# Altium schematic symbol library ATMEGA328P.SchLib: 1 symbol
Pins are listed as number, name and electrical type; pins without a type are passive.

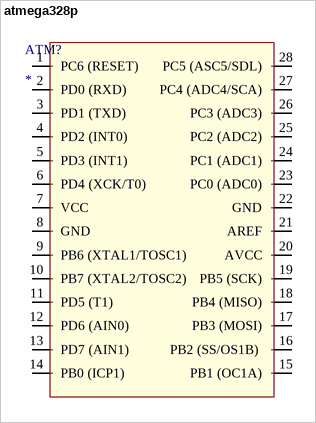
[diagram p0: symbol atmega328p]

## atmega328p
designator ATM?
footprint ATmega328/P (SOJ, 28-Leads, Body 34,60x7,94mm, Pitch 2,54mm, IPC Low Density)
pins: 1 PC6 (RESET) "RESET", 2 PD0 (RXD) "RXD", 3 PD1 (TXD) "TXD", 4 PD2 (INT0) "INT0", 5 PD3 (INT1) "INT1", 6 PD4 (XCK/T0) "XCK/T0", 7 VCC, 8 GND, 9 PB6 (XTAL1/TOSC1)  "XTAL1/TOSC1", 10 PB7 (XTAL2/TOSC2)  "XTAL2/TOSC2", 11 PD5 (T1) "T1", 12 PD6 (AIN0) "AIN0", 13 PD7 (AIN1) "AIN1", 14 PB0 (ICP1) "ICP1", 15 PB1 (OC1A) "OC1A", 16 PB2 (SS/OS1B)  "SS/OS1B", 17 PB3 (MOSI) "MOSI", 18 PB4 (MISO) "MISO", 19 PB5 (SCK) "SCK", 20 AVCC, 21 AREF, 22 GND, 23 PC0 (ADC0) "ADC0", 24 PC1 (ADC1) "ADC1", 25 PC2 (ADC2) "ADC2", 26 PC3 (ADC3) "ADC3", 27 PC4 (ADC4/SCA) "ADC4/SCA", 28 PC5 (ASC5/SDL) "ASC5/SDL"